# Altium schematic symbol library pwr_linear_led_driver.SchLib: 2 symbols
Pins are listed as number, name and electrical type; pins without a type are passive.

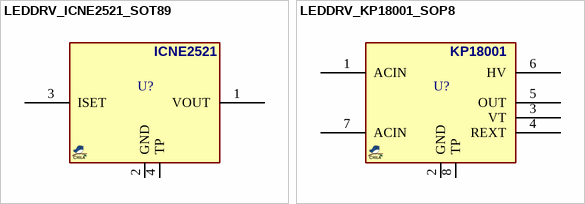
[diagram p0: symbols LEDDRV_ICNE2521_SOT89 to LEDDRV_KP18001_SOP8]

## LEDDRV_ICNE2521_SOT89
designator U?, comment ICNE2521  (value not drawn)
LED Driver, linear, 100mA max; MANF: Chiplight; MANF_P#: ICNE2521DS; PARAM: 3~100mA, 92%@165°C, -40~150°C; ASSEMBLY: ASSEMBLY; VALUE: ICNE2521
footprint SOT89_3 (SOT89, SOT-89, SBF-4089, SOT89A, GALI, SC-62, DF782, TO-243AA(JEDEC), 1.5mm pitch)
pins: 1 VOUT, 2 GND, 3 ISET, 4 TP

## LEDDRV_KP18001_SOP8
designator U?, comment KP18001  (value not drawn)
LED Driver, linear, 60mA max; MANF: Chiplight; MANF_P#: KP18001WPA; PARAM: 5~60mA, 92%@165°C, -40~150°C; ASSEMBLY: ASSEMBLY; VALUE: KP18001
footprint SOP_7C (Footprint not found)
pins: 1 ACIN, 2 GND, 3 VT, 4 REXT, 5 OUT, 6 HV, 7 ACIN, 8 TP